# Altium schematic symbol library ERA-3+.SchLib: 1 symbol
Pins are listed as number, name and electrical type; pins without a type are passive.

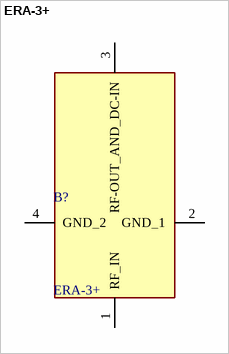
[diagram p0: symbol ERA-3+]

## ERA-3+
designator B?
SMT MMIC, Linear, Gain Block, HBT Amplifier, DC to 3000 MHz, 50, Micro-X Style Package; Manufacturer_Name: Mini-Circuits; Geometry.Height: 2.282mm; Mouser Part Number: 139-ERA-3; Mouser Price/Stock: https://www.mouser.co.uk/ProductDetail/Mini-Circuits/ERA-3%2b?qs=xZ%2FP%252Ba9zWqYUluriU41zUw%3D%3D; Manufacturer_Part_Number: ERA-3+; Datasheet Link: https://www.minicircuits.com/WebStore/dashboardPdf?model=ERA-3%2B
footprint ERA3
pins: 1 RF_IN, 2 GND_1, 3 RF-OUT_AND_DC-IN, 4 GND_2